# Altium schematic symbol library Schlib1.SchLib: 5 symbols
Pins are listed as number, name and electrical type; pins without a type are passive.

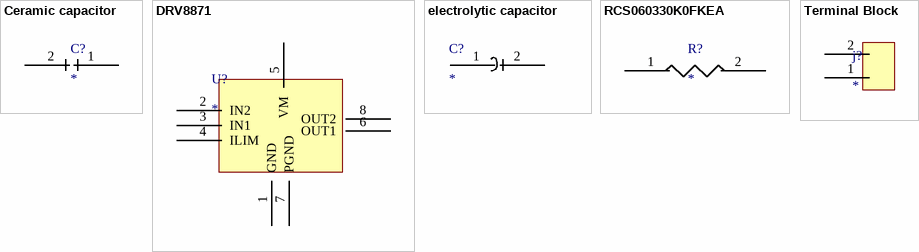
[diagram p0: symbols Ceramic capacitor to Terminal Block]

## Ceramic capacitor
designator C?
part number: 1276-1002-2-ND; manf part number: CL05B104KP5NNNC; manf: Samsung Electro-Mechanics; supplier: digikey
footprint ceramic capacitor
pins: 1, 2

## DRV8871
designator U?
PART NUMBER: 296-43024-2-ND; MANFACTURER PART NUMBER: DRV8871DDAR; MANFACTURER: Texas Instruments; SUPPLIER: digikey
footprint DRV8871
pins: 1 GND, 2 IN2, 3 IN1, 4 ILIM, 5 VM, 6 OUT1, 7 PGND, 8 OUT2

## electrolytic capacitor
designator C?
part number: 732-8416-2-ND; manf part number: 865080342006; manf: Würth Elektronik; supplier: digikey
footprint electrolytic capacitor
pins: 1, 2

## RCS060330K0FKEA
designator R?
part number: 541-10453-2-ND; manf part number: RCS060330K0FKEA; manf: Vishay Dale; supplier: digikey
footprint RCS060330K0FKEA
pins: 1, 2

## Terminal Block
designator j?
Part number: 300000007278; Supplier: Makers
footprint Terminal block
pins: 1, 2